# Altium footprint library controlpannel.PcbLib: 13 footprints
Each footprint in its own frame and in the unit in brackets; x right, y up, seen from the top. Pads: shape width x height; smd on the part's side, far side on the other; paste and mask are expansions set on the pad; w line width, h text height; cw(c..) or ccw(c..) is an arc to the next point about the centre after c.
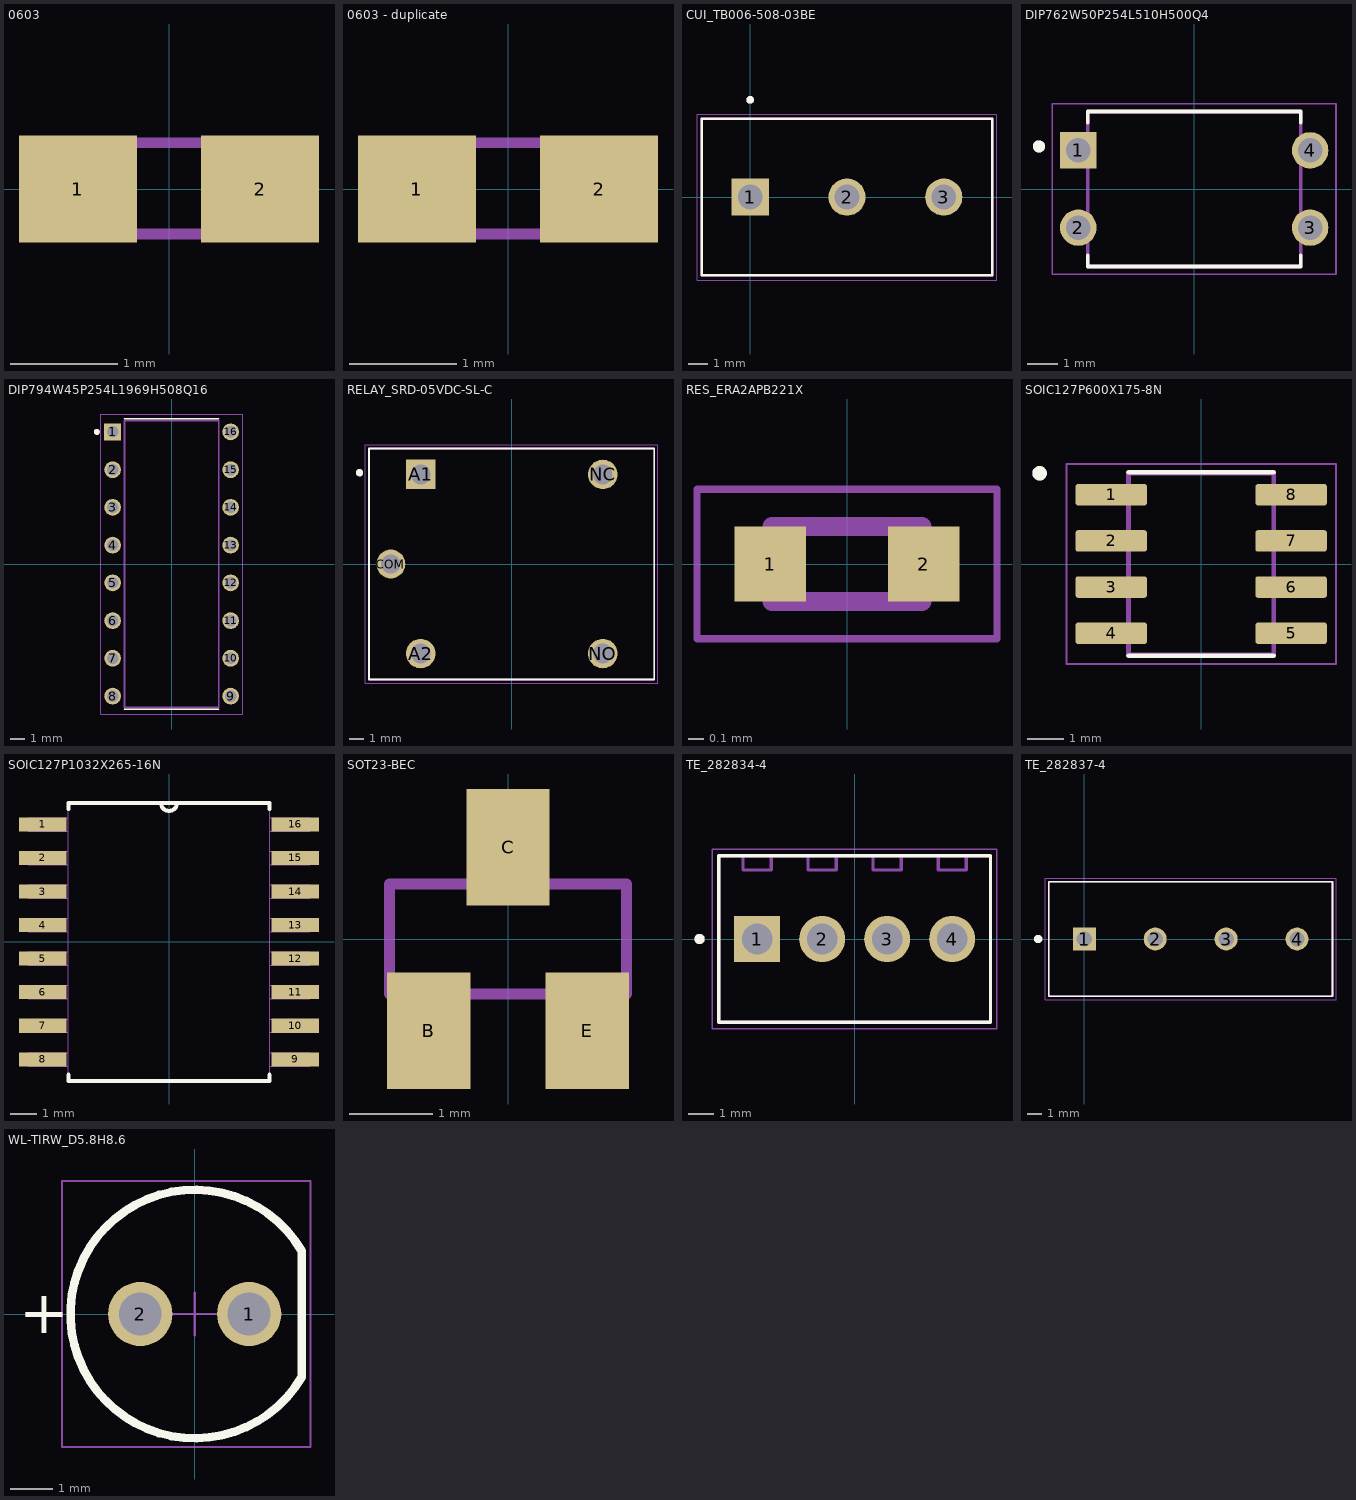
[diagram p0: the footprints below, top view; thin cyan lines are the x and y axes]

## 0603 [mm]
pads (2):
  rect 1.1x1 smd: 1(-0.85,0) 2(0.85,0)
Mechanical 13:
  region: 0.83,-0.47 0.331,-0.47 0.331,0.48 0.83,0.48
  region: -0.338,-0.471 -0.84,-0.471 -0.84,0.48 -0.338,0.48
  lines w0.102: -0.356,-0.419 0.356,-0.419 ; -0.356,0.432 0.356,0.432
3D body "RC0603JR-0710KA.STEP": height 0.78, standoff -0.02, extent -0.673,-0.508 0.927,0.392

## 0603 - duplicate [mm]
pads (2):
  rect 1.1x1 smd: 1(-0.85,0) 2(0.85,0)
Mechanical 13:
  region: -0.338,-0.471 -0.84,-0.471 -0.84,0.48 -0.338,0.48
  region: 0.83,-0.47 0.331,-0.47 0.331,0.48 0.83,0.48
  lines w0.102: -0.356,-0.419 0.356,-0.419 ; -0.356,0.432 0.356,0.432
3D body "LTST-C193TBKT-5A--3DModel-STEP-56544.STEP": height 0.36, standoff 0.01, extent -0.8,-0.4 0.8,0.4

## CUI_TB006-508-03BE [mm]
pads (3):
  rect 1.95x1.95 / inner round 1.95 / far side rect 1.95x1.95 hole 1.3: 1(0,0)
  round 1.95 hole 1.3: 2(5.08,0) 3(10.16,0)
Top Overlay:
  circle w0.2: c0,5.1 r0.1
  lines w0.127: -2.54,-4.1 -2.54,4.1 12.7,4.1 12.7,-4.1 -2.54,-4.1
Mechanical 13:
  circle w0.2: c0,5.1 r0.1
  lines w0.127: -2.54,-4.1 -2.54,4.1 12.7,4.1 12.7,-4.1 -2.54,-4.1
Mechanical 15:
  lines w0.05: -2.79,-4.35 12.95,-4.35 12.95,4.35 -2.79,4.35 -2.79,-4.35
3D body "step_temp.STEP": height 10, standoff -3.8, extent -3.04,-4.1 12.7,4.1

## DIP762W50P254L510H500Q4 [mm]
pads (4):
  rect 1.2x1.2 hole 0.8: 1(-3.81,1.27)
  round 1.2 hole 0.8: 2(-3.81,-1.27) 3(3.81,-1.27) 4(3.81,1.27)
Top Overlay:
  circle w0.2: c-5.1,1.4 r0.1
  lines w0.127: -3.5,-2.19 -3.5,-2.55 3.5,-2.55 3.5,-2.19 ; -3.5,2.19 -3.5,2.55 3.5,2.55 3.5,2.19
Mechanical 13:
  circle w0.2: c-5.1,1.4 r0.1
  lines w0.127: -3.5,-2.55 3.5,-2.55 3.5,2.55 -3.5,2.55 -3.5,-2.55
Mechanical 15:
  lines w0.05: -4.66,-2.8 -4.66,2.8 4.66,2.8 4.66,-2.8 -4.66,-2.8
3D body "LTV-817-A--3DModel-STEP-56544.STEP": height 4.01, standoff -4.29, extent -4.529,-2.3 4.529,2.3

## DIP794W45P254L1969H508Q16 [mm]
pads (16):
  rect 1.13x1.13 hole 0.78: 1(-3.97,8.89)
  round 1.13 hole 0.78: 2(-3.97,6.35) 3(-3.97,3.81) 4(-3.97,1.27) 5(-3.97,-1.27) 6(-3.97,-3.81) 7(-3.97,-6.35) 8(-3.97,-8.89) 9(3.97,-8.89) 10(3.97,-6.35) 11(3.97,-3.81) 12(3.97,-1.27) 13(3.97,1.27) 14(3.97,3.81) 15(3.97,6.35) 16(3.97,8.89)
Top Overlay:
  circle w0.2: c-5.035,8.89 r0.1
  lines w0.127: -3.175,-9.775 3.175,-9.775 ; -3.175,9.775 3.175,9.775
Mechanical 13:
  circle w0.2: c-5.035,8.89 r0.1
  lines w0.127: -3.175,-9.653 -3.175,9.653 3.175,9.653 3.175,-9.653 -3.175,-9.653
Mechanical 15:
  lines w0.05: -4.785,-10.095 -4.785,10.095 4.785,10.095 4.785,-10.095 -4.785,-10.095
3D body "SN74HC595N.STEP": height 4.58, standoff -3.78, extent -3.845,-9.906 3.845,9.398

## RELAY_SRD-05VDC-SL-C [mm]
pads (5):
  rect 1.98x1.98 / inner round 1.98 / far side rect 1.98x1.98 hole 1.32: A1(-6.1,6)
  round 1.98 hole 1.32: A2(-6.1,-6) NC(6.1,6) NO(6.1,-6)
  round 1.935 hole 1.29: COM(-8.1,0)
Top Overlay:
  circle w0.3: c-10.2,6.119 r0.1
  lines w0.127: -9.55,-7.75 -9.55,7.75 9.55,7.75 9.55,-7.75 -9.55,-7.75
Mechanical 13:
  lines w0.127: -9.55,-7.75 -9.55,7.75 9.55,7.75 9.55,-7.75 -9.55,-7.75
Mechanical 15:
  lines w0.05: -9.8,-8 -9.8,8 9.8,8 9.8,-8 -9.8,-8
3D body "step_temp.STEP": height 15.8, standoff -3, extent -9.6,-7.8 9.6,7.8

## RES_ERA2APB221X [mm]
pads (2):
  rect 0.475x0.5 smd: 1(-0.512,0) 2(0.512,0)
Mechanical 13:
  lines w0.127: -0.5,-0.25 -0.5,0.25 0.5,0.25 0.5,-0.25 -0.5,-0.25
Mechanical 15:
  lines w0.05: -1,-0.5 -1,0.5 1,0.5 1,-0.5 -1,-0.5
3D body "ERA-2APB221X.STEP": height 0.35, standoff 0, extent -0.5,-0.254 0.5,0.246

## SOIC127P600X175-8N [mm]
pads (8):
  rrect25% 1.97x0.59 smd: 1(-2.475,1.905) 2(-2.475,0.635) 3(-2.475,-0.635) 4(-2.475,-1.905) 5(2.475,-1.905) 6(2.475,-0.635) 7(2.475,0.635) 8(2.475,1.905)
Top Overlay:
  circle w0.2: c-4.445,2.495 r0.1
  lines w0.127: -2,-2.52 2,-2.52 ; -2,2.52 2,2.52
Mechanical 13:
  circle w0.2: c-4.445,2.495 r0.1
  lines w0.127: -2,-2.5 -2,2.5 2,2.5 2,-2.5 -2,-2.5
Mechanical 15:
  lines w0.05: -3.71,-2.75 -3.71,2.75 3.71,2.75 3.71,-2.75 -3.71,-2.75
3D body "MAX485CSA+.STEP": height 1.75, standoff 0, extent -2.619,-2.45 3.381,2.45

## SOIC127P1032X265-16N [mil]
pads (16):
  rect 71x21 smd: 1(-188,175) 2(-188,125) 3(-188,75) 4(-188,25) 5(-188,-25) 6(-188,-75) 7(-188,-125) 8(-188,-175) 9(188,-175) 10(188,-125) 11(188,-75) 12(188,-25) 13(188,25) 14(188,75) 15(188,125) 16(188,175)
Top Overlay:
  lines w6: -150,-198 -150,-207 150,-207 150,-198 ; -150,198 -150,207 -12,207 ; 150,198 150,207 12,207 ; -12,207 ccw(c0,207) 12,207 ; -12,207 12,207
Mechanical 13:
  lines w0: -12,207 ccw(c0,207) 12,207 ; -12,207 -150,207 -150,-207 150,-207 150,207 12,207 ; -12,207 12,207 ; -210,-185 -150,-185 -150,-165 -210,-165 -210,-185 ; -210,-135 -150,-135 -150,-115 -210,-115 -210,-135 ; -210,-85 -150,-85 -150,-65 -210,-65 -210,-85 ; -210,-35 -150,-35 -150,-15 -210,-15 -210,-35 ; -210,15 -150,15 -150,35 -210,35 -210,15 ; -210,65 -150,65 -150,85 -210,85 -210,65 ; -210,115 -150,115 -150,135 -210,135 -210,115 ; -210,165 -150,165 -150,185 -210,185 -210,165 ; 150,-185 210,-185 210,-165 150,-165 150,-185 ; 150,-135 210,-135 210,-115 150,-115 150,-135 ; 150,-85 210,-85 210,-65 150,-65 150,-85 ; 150,-35 210,-35 210,-15 150,-15 150,-35 ; 150,15 210,15 210,35 150,35 150,15 ; 150,65 210,65 210,85 150,85 150,65 ; 150,115 210,115 210,135 150,135 150,115 ; 150,165 210,165 210,185 150,185 150,165
3D body "step_temp.STEP": height 104.33, standoff 0, extent -203.25,-202.76 203.25,202.76

## SOT23-BEC [mm]
pads (3):
  rect 1x1.4 smd: B(-0.95,-1.1) C(0,1.1) E(0.95,-1.1)
Mechanical 13:
  region: 0.229,0.711 -0.229,0.711 -0.229,1.295 0.229,1.295
  region: 1.168,-1.297 0.712,-1.297 0.712,-0.711 1.168,-0.711
  region: -0.711,-1.296 -1.169,-1.296 -1.169,-0.711 -0.711,-0.711
  lines w0.127: -1.422,-0.66 1.422,-0.66 1.422,0.66 -1.422,0.66 -1.422,-0.66
3D body "step_temp.STEP": height 1.14, standoff 0, extent -1.45,-1.2 1.45,1.2

## TE_282834-4 [mm]
height 10
pads (4):
  rect 1.8x1.8 / inner round 1.8 / far side rect 1.8x1.8 hole 1.2: 1(-3.81,0)
  round 1.8 hole 1.2: 2(-1.27,0) 3(1.27,0) 4(3.81,0)
Top Overlay:
  circle w0.2: c-6.06,0 r0.1
  lines w0.127: -5.31,-3.25 -5.31,3.25 5.31,3.25 5.31,-3.25 -5.31,-3.25
Mechanical 13:
  circle w0.2: c-6.06,0 r0.1
  lines w0.127: -4.36,3.2 -4.36,2.7 -3.26,2.7 -3.26,3.2 ; -1.82,3.2 -1.82,2.7 -0.72,2.7 -0.72,3.2 ; 0.72,3.2 0.72,2.7 1.82,2.7 1.82,3.2 ; 3.26,3.2 3.26,2.7 4.36,2.7 4.36,3.2 ; -5.31,-3.25 -5.31,3.25 5.31,3.25 5.31,-3.25 -5.31,-3.25
Mechanical 15:
  lines w0.05: -5.56,-3.5 5.56,-3.5 5.56,3.5 -5.56,3.5 -5.56,-3.5
3D body "step_temp.STEP": height 10, standoff -3.6, extent -5.31,-3.25 5.31,3.25

## TE_282837-4 [mm]
pads (4):
  rect 1.65x1.65 / inner round 1.65 / far side rect 1.65x1.65 hole 1.1: 1(0,0)
  round 1.65 hole 1.1: 2(5.08,0) 3(10.16,0) 4(15.24,0)
Top Overlay:
  circle w0.3: c-3.31,0 r0.15
  lines w0.127: -2.54,-4.1 17.78,-4.1 17.78,4.1 -2.54,4.1 -2.54,-4.1
Mechanical 13:
  circle w0.3: c0,0 r0.15
  lines w0.127: -2.54,-4.1 17.78,-4.1 17.78,4.1 -2.54,4.1 -2.54,-4.1
Mechanical 15:
  lines w0.05: -2.79,-4.35 -2.79,4.35 18.03,4.35 18.03,-4.35 -2.79,-4.35
3D body "step_temp.STEP": height 9.79, standoff -3.71, extent -2.84,-3.882 18.08,4.318

## WL-TIRW_D5.8H8.6 [mm] "THT Infrared Round Waterclear, body diameter 5.8mm"
height 8.6
pads (2):
  round 1.5 hole 1: 1(1.27,0) 2(-1.27,0)
Top Overlay:
  lines w0.2: 2.5,-1.47 cw(c0,0) 2.5,1.47 ; 2.5,-1.47 2.5,1.47
  text "+" at -4.1,-0.45 h1.02
Top 3D Body:
  lines w0.1: 2.5,-1.47 cw(c0,0) 2.5,1.47 ; 2.5,-1.47 2.5,1.47
Top Courtyard:
  lines w0.05: -0.5,0 0.5,0 ; 0,-0.5 0,0.5 ; -3.1,-3.1 2.7,-3.1 2.7,3.1 -3.1,3.1 -3.1,-3.1
Top Designator:
  text ".Designator" at -5.998,-0.4 h1.2
Top Component Outline:
  lines w0.1: 2.5,-1.47 cw(c0,0) 2.5,1.47 ; 2.5,-1.47 2.5,1.47
3D body "154005xxx.stp": height 9.1, standoff -25.9, extent -2.9,-2.899 2.5,2.9